# EAGLE library part IS31FL3730 (library pimoroni-ics)
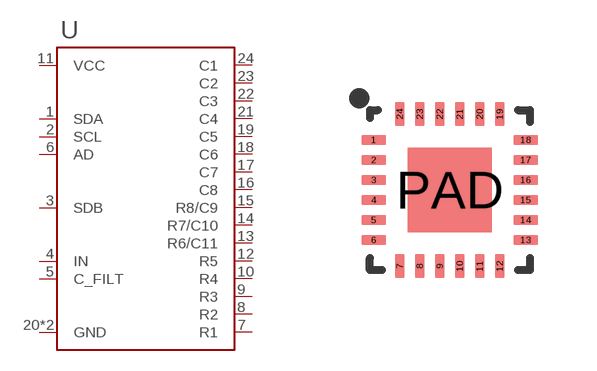
[diagram p7: symbol with the pads of QFN-24; footprint QFN-24]

Designator prefix U

## IS31FL3730  [QFN-24]
1  SDA
2  SCL
3  SDB
4  IN
5  C_FILT
6  AD
7  R1
8  R2
9  R3
10  R4
11  VCC
12  R5
13  R6/C11
14  R7/C10
15  R8/C9
16  C8
17  C7
18  C6
19  C5
20  GND
21  C4
22  C3
23  C2
24  C1
PAD  GND

## Footprint QFN-24 (pad centres in mm)
smd 0.6 x 0.24: 1 -1.9,1.25; 2 -1.9,0.75; 3 -1.9,0.25; 4 -1.9,-0.25; 5 -1.9,-0.75; 6 -1.9,-1.25; 13 1.9,-1.25; 14 1.9,-0.75; 15 1.9,-0.25; 16 1.9,0.25; 17 1.9,0.75; 18 1.9,1.25
smd 0.24 x 0.6: 7 -1.25,-1.9; 8 -0.75,-1.9; 9 -0.25,-1.9; 10 0.25,-1.9; 11 0.75,-1.9; 12 1.25,-1.9; 19 1.25,1.9; 20 0.75,1.9; 21 0.25,1.9; 22 -0.25,1.9; 23 -0.75,1.9; 24 -1.25,1.9
smd 2.1 x 2.1: PAD 0,0